# EAGLE library part CONN_USB_NODE (library psas)
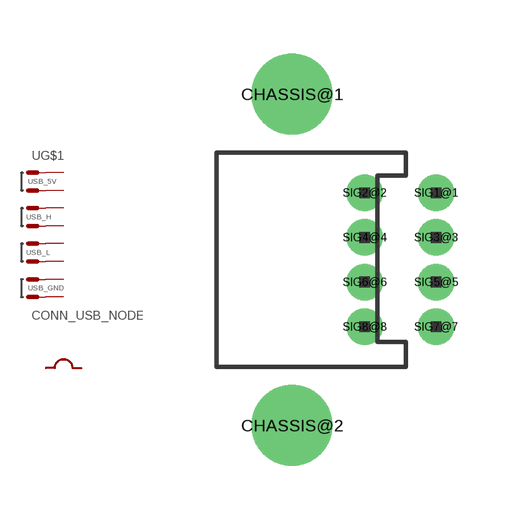
[diagram p40: symbol with the pads of NODE_CONN; footprint NODE_CONN]

Designator prefix -; gates G$1=CONN_USB G$2=JUMPER

## CONN_USB_NODE  [NODE_CONN]
CHASSIS@1  G$2:1  pas
CHASSIS@2  G$2:2  pas
SIG1@1  G$1:USB_5V1  pas
SIG2@2  G$1:USB_5V2  pas
SIG3@3  G$1:USB_H1  pas
SIG4@4  G$1:USB_H2  pas
SIG5@5  G$1:USB_L1  pas
SIG6@6  G$1:USB_L2  pas
SIG7@7  G$1:USB_GND1  pas
SIG8@8  G$1:USB_GND2  pas

## Footprint NODE_CONN (pad centres in mm)
drill 1.511 round: CHASSIS@1 0.508,3.365; CHASSIS@2 0.508,-5.905
drill 0.508 pad 1.016 round: SIG1@1 4.54,0.605; SIG2@2 2.54,0.605; SIG3@3 4.54,-0.645; SIG4@4 2.54,-0.645; SIG5@5 4.54,-1.895; SIG6@6 2.54,-1.895; SIG7@7 4.54,-3.145; SIG8@8 2.54,-3.145